# EAGLE library part OM16213 (library densikit)
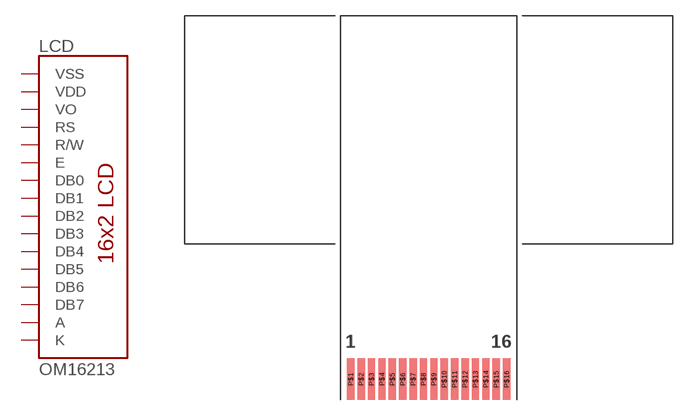
[diagram p8: symbol with the pads of OM16213; footprint OM16213]

Designator prefix LCD

## OM16213  [OM16213]
P$1  VSS  pwr
P$2  VDD  pwr
P$3  VO
P$4  RS  in
P$5  R/W  in
P$6  E  in
P$7  DB0
P$8  DB1
P$9  DB2
P$10  DB3
P$11  DB4
P$12  DB5
P$13  DB6
P$14  DB7
P$15  A  pwr
P$16  K  pwr

## Footprint OM16213 (pad centres in mm)
smd 0.7 x 4: P$1 -7.5,2; P$2 -6.5,2; P$3 -5.5,2; P$4 -4.5,2; P$5 -3.5,2; P$6 -2.5,2; P$7 -1.5,2; P$8 -0.5,2; P$9 0.5,2; P$10 1.5,2; P$11 2.5,2; P$12 3.5,2; P$13 4.5,2; P$14 5.5,2; P$15 6.5,2; P$16 7.5,2